# Altium footprint library Power Management DC-DC Conversion.PcbLib: 98 footprints (part 2 of 7)
Each footprint in its own frame and in the unit in brackets; x right, y up, seen from the top. Pads: shape width x height; smd on the part's side, far side on the other; paste and mask are expansions set on the pad; w line width, h text height; cw(c..) or ccw(c..) is an arc to the next point about the centre after c.
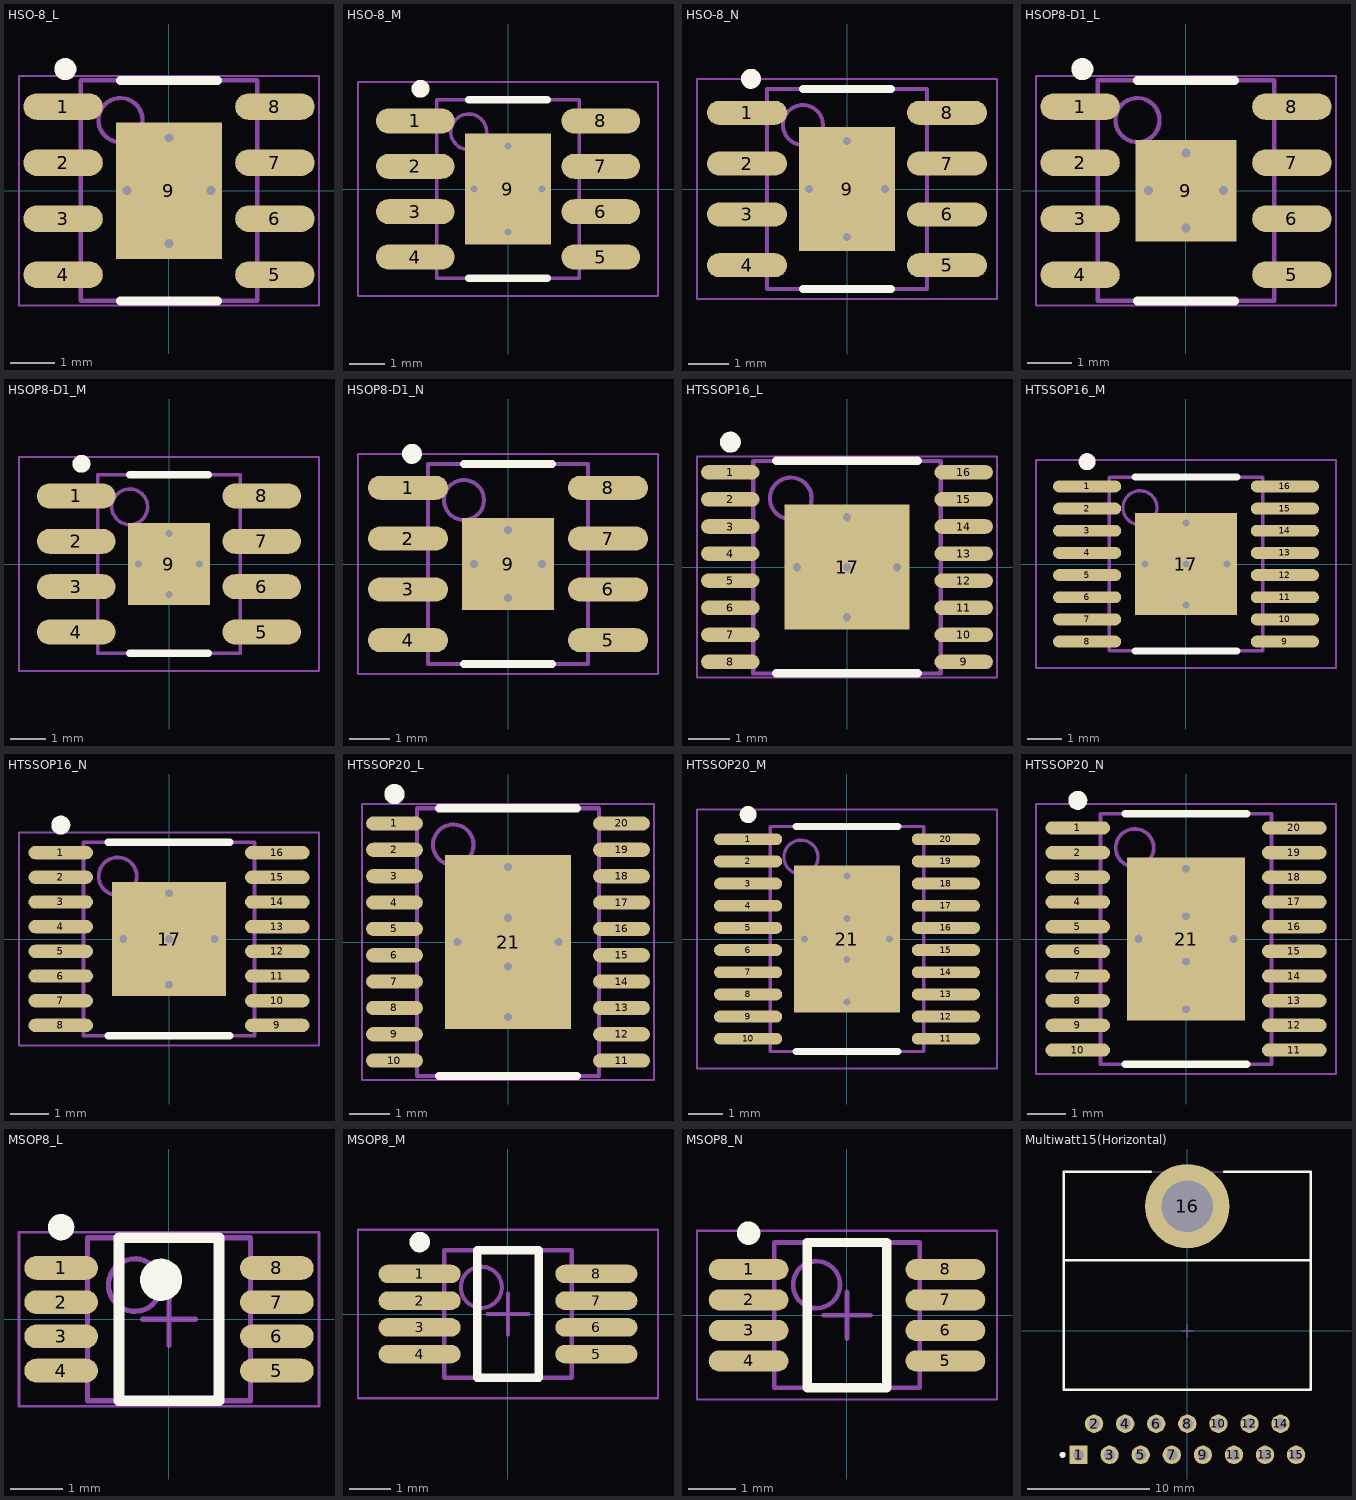
[diagram p1: the footprints below, top view; thin cyan lines are the x and y axes]

## HSO-8_L [mm] "SOIC, 8-Leads, Body 4.9x3.9mm, Pitch 1.27mm, Thermal Pad, IPC High Density"
height 1.75
pads (9):
  oval 1.8x0.6 smd: 1(-2.4,1.905) 2(-2.4,0.635) 3(-2.4,-0.635) 4(-2.4,-1.905) 5(2.4,-1.905) 6(2.4,-0.635) 7(2.4,0.635) 8(2.4,1.905)
  rect 2.4x3.1 smd paste-1.2: 9(0,0)
via -0.95,0 diameter 0.5 hole 0.2
via 0,-1.2 diameter 0.5 hole 0.2
via 0,1.2 diameter 0.5 hole 0.2
via 0.95,0 diameter 0.5 hole 0.2
Top Overlay:
  circle w0.25: c-2.35,2.755 r0.125
  lines w0.2: -1.1,-2.5 1.1,-2.5 ; -1.1,2.5 1.1,2.5
Top Paste:
  rectangle: 0.1,-1.45 1.1,-0.1
  region: -0.1,-0.1 -1.1,-0.1 -1.1,-1.45 -0.1,-1.45
  region: -0.1,1.45 -1.1,1.45 -1.1,0.1 -0.1,0.1
  rectangle: 0.1,0.1 1.1,1.45
Mechanical 13:
  circle w0.1: c-1.1,1.6 r0.5
  lines w0.1: -2,-2.5 -2,2.5 2,2.5 2,-2.5 -2,-2.5
Mechanical 15:
  lines w0.05: -3.4,-2.6 -3.4,2.6 3.4,2.6 3.4,-2.6 -3.4,-2.6
  lines w0.1: -0.5,0 0.5,0 ; 0,-0.5 0,0.5
3D body: height 1.75, standoff 0, extent -2,-2.5 2,2.5

## HSO-8_M [mm] "SOIC, 8-Leads, Body 4.9x3.9mm, Pitch 1.27mm, Thermal Pad, IPC Low Density"
height 1.75
pads (9):
  oval 2.2x0.7 smd: 1(-2.6,1.905) 2(-2.6,0.635) 3(-2.6,-0.635) 4(-2.6,-1.905) 5(2.6,-1.905) 6(2.6,-0.635) 7(2.6,0.635) 8(2.6,1.905)
  rect 2.4x3.1 smd paste-1.2: 9(0,0)
via -0.95,0 diameter 0.5 hole 0.2
via 0,-1.2 diameter 0.5 hole 0.2
via 0,1.2 diameter 0.5 hole 0.2
via 0.95,0 diameter 0.5 hole 0.2
Top Overlay:
  circle w0.25: c-2.45,2.805 r0.125
  lines w0.2: -1.1,-2.5 1.1,-2.5 ; -1.1,2.5 1.1,2.5
Top Paste:
  rectangle: 0.1,-1.45 1.1,-0.1
  region: -0.1,-0.1 -1.1,-0.1 -1.1,-1.45 -0.1,-1.45
  region: -0.1,1.45 -1.1,1.45 -1.1,0.1 -0.1,0.1
  rectangle: 0.1,0.1 1.1,1.45
Mechanical 13:
  circle w0.1: c-1.1,1.6 r0.5
  lines w0.1: -2,-2.5 -2,2.5 2,2.5 2,-2.5 -2,-2.5
Mechanical 15:
  lines w0.05: -4.2,-3 -4.2,3 4.2,3 4.2,-3 -4.2,-3
  lines w0.1: -0.5,0 0.5,0 ; 0,-0.5 0,0.5
3D body: height 1.75, standoff 0, extent -2,-2.5 2,2.5

## HSO-8_N [mm] "SOIC, 8-Leads, Body 4.9x3.9mm, Pitch 1.27mm, Thermal Pad, IPC Medium Density"
height 1.75
pads (9):
  oval 2x0.6 smd: 1(-2.5,1.905) 2(-2.5,0.635) 3(-2.5,-0.635) 4(-2.5,-1.905) 5(2.5,-1.905) 6(2.5,-0.635) 7(2.5,0.635) 8(2.5,1.905)
  rect 2.4x3.1 smd paste-1.2: 9(0,0)
via -0.95,0 diameter 0.5 hole 0.2
via 0,-1.2 diameter 0.5 hole 0.2
via 0,1.2 diameter 0.5 hole 0.2
via 0.95,0 diameter 0.5 hole 0.2
Top Overlay:
  circle w0.25: c-2.4,2.755 r0.125
  lines w0.2: -1.1,-2.5 1.1,-2.5 ; -1.1,2.5 1.1,2.5
Top Paste:
  rectangle: 0.1,-1.45 1.1,-0.1
  region: -0.1,-0.1 -1.1,-0.1 -1.1,-1.45 -0.1,-1.45
  region: -0.1,1.45 -1.1,1.45 -1.1,0.1 -0.1,0.1
  rectangle: 0.1,0.1 1.1,1.45
Mechanical 13:
  circle w0.1: c-1.1,1.6 r0.5
  lines w0.1: -2,-2.5 -2,2.5 2,2.5 2,-2.5 -2,-2.5
Mechanical 15:
  lines w0.05: -3.75,-2.75 -3.75,2.75 3.75,2.75 3.75,-2.75 -3.75,-2.75
  lines w0.1: -0.5,0 0.5,0 ; 0,-0.5 0,0.5
3D body: height 1.75, standoff 0, extent -2,-2.5 2,2.5

## HSOP8-D1_L [mm] "SOIC, 8-Leads, Body 4.9x3.9mm, Pitch 1.27mm, Thermal Pad, IPC High Density"
height 1.7
pads (9):
  oval 1.8x0.6 smd: 1(-2.4,1.905) 2(-2.4,0.635) 3(-2.4,-0.635) 4(-2.4,-1.905) 5(2.4,-1.905) 6(2.4,-0.635) 7(2.4,0.635) 8(2.4,1.905)
  rect 2.3x2.3 smd paste-1.15: 9(0,0)
via 0,-0.85 diameter 0.5 hole 0.2
via 0,0.85 diameter 0.5 hole 0.2
via -0.85,0 diameter 0.5 hole 0.2
via 0.85,0 diameter 0.5 hole 0.2
Top Overlay:
  circle w0.25: c-2.35,2.755 r0.125
  lines w0.2: -1.1,-2.5 1.1,-2.5 ; -1.1,2.5 1.1,2.5
Top Paste:
  rectangle: 0.1,0.1 1.05,1.05
  region: -0.1,0.1 -0.1,1.05 -1.05,1.05 -1.05,0.1
  region: -0.1,-0.1 -1.05,-0.1 -1.05,-1.05 -0.1,-1.05
  region: 0.1,-0.1 0.1,-1.05 1.05,-1.05 1.05,-0.1
Mechanical 13:
  circle w0.1: c-1.1,1.6 r0.5
  lines w0.1: -2,-2.5 -2,2.5 2,2.5 2,-2.5 -2,-2.5
Mechanical 15:
  lines w0.05: -3.4,-2.6 -3.4,2.6 3.4,2.6 3.4,-2.6 -3.4,-2.6
  lines w0.1: -0.5,0 0.5,0 ; 0,-0.5 0,0.5
3D body: height 1.7, standoff 0, extent -2,-2.5 2,2.5

## HSOP8-D1_M [mm] "SOIC, 8-Leads, Body 4.9x3.9mm, Pitch 1.27mm, Thermal Pad, IPC Low Density"
height 1.7
pads (9):
  oval 2.2x0.7 smd: 1(-2.6,1.905) 2(-2.6,0.635) 3(-2.6,-0.635) 4(-2.6,-1.905) 5(2.6,-1.905) 6(2.6,-0.635) 7(2.6,0.635) 8(2.6,1.905)
  rect 2.3x2.3 smd paste-1.15: 9(0,0)
via 0.85,0 diameter 0.5 hole 0.2
via -0.85,0 diameter 0.5 hole 0.2
via 0,0.85 diameter 0.5 hole 0.2
via 0,-0.85 diameter 0.5 hole 0.2
Top Overlay:
  circle w0.25: c-2.45,2.805 r0.125
  lines w0.2: -1.1,-2.5 1.1,-2.5 ; -1.1,2.5 1.1,2.5
Top Paste:
  region: 0.1,-0.1 0.1,-1.05 1.05,-1.05 1.05,-0.1
  region: -0.1,-0.1 -1.05,-0.1 -1.05,-1.05 -0.1,-1.05
  region: -0.1,0.1 -0.1,1.05 -1.05,1.05 -1.05,0.1
  rectangle: 0.1,0.1 1.05,1.05
Mechanical 13:
  circle w0.1: c-1.1,1.6 r0.5
  lines w0.1: -2,-2.5 2,-2.5 2,2.5 -2,2.5 -2,-2.5
Mechanical 15:
  lines w0.05: -4.2,-3 4.2,-3 4.2,3 -4.2,3 -4.2,-3
  lines w0.1: -0.5,0 0.5,0 ; 0,-0.5 0,0.5
3D body: height 1.7, standoff 0, extent -2,-2.5 2,2.5

## HSOP8-D1_N [mm] "SOIC, 8-Leads, Body 4.9x3.9mm, Pitch 1.27mm, Thermal Pad, IPC Medium Density"
height 1.7
pads (9):
  oval 2x0.6 smd: 1(-2.5,1.905) 2(-2.5,0.635) 3(-2.5,-0.635) 4(-2.5,-1.905) 5(2.5,-1.905) 6(2.5,-0.635) 7(2.5,0.635) 8(2.5,1.905)
  rect 2.3x2.3 smd paste-1.15: 9(0,0)
via 0.85,0 diameter 0.5 hole 0.2
via -0.85,0 diameter 0.5 hole 0.2
via 0,0.85 diameter 0.5 hole 0.2
via 0,-0.85 diameter 0.5 hole 0.2
Top Overlay:
  circle w0.25: c-2.4,2.755 r0.125
  lines w0.2: -1.1,-2.5 1.1,-2.5 ; -1.1,2.5 1.1,2.5
Top Paste:
  region: 0.1,-0.1 0.1,-1.05 1.05,-1.05 1.05,-0.1
  region: -0.1,-0.1 -1.05,-0.1 -1.05,-1.05 -0.1,-1.05
  region: -0.1,0.1 -0.1,1.05 -1.05,1.05 -1.05,0.1
  rectangle: 0.1,0.1 1.05,1.05
Mechanical 13:
  circle w0.1: c-1.1,1.6 r0.5
  lines w0.1: -2,-2.5 2,-2.5 2,2.5 -2,2.5 -2,-2.5
Mechanical 15:
  lines w0.05: -3.75,-2.75 -3.75,2.75 3.75,2.75 3.75,-2.75 -3.75,-2.75
  lines w0.1: -0.5,0 0.5,0 ; 0,-0.5 0,0.5
3D body: height 1.7, standoff 0, extent -2,-2.5 2,2.5

## HTSSOP16_L [mm] "TSOP, 16-Leads, Body 5x4.4mm, Pitch 0.65mm, Thermal Pad 3x3mm, IPC High Density"
height 1.2
pads (17):
  oval 1.4x0.35 smd: 1(-2.8,2.275) 2(-2.8,1.625) 3(-2.8,0.975) 4(-2.8,0.325) 5(-2.8,-0.325) 6(-2.8,-0.975) 7(-2.8,-1.625) 8(-2.8,-2.275) 9(2.8,-2.275) 10(2.8,-1.625) 11(2.8,-0.975) 12(2.8,-0.325) 13(2.8,0.325) 14(2.8,0.975) 15(2.8,1.625) 16(2.8,2.275)
  rect 3x3 smd paste-1.5: 17(0,0)
via 1.2,0 diameter 0.5 hole 0.2
via 0,0 diameter 0.5 hole 0.2
via -1.2,0 diameter 0.5 hole 0.2
via 0,1.2 diameter 0.5 hole 0.2
via 0,-1.2 diameter 0.5 hole 0.2
Top Overlay:
  circle w0.25: c-2.8,3 r0.125
  lines w0.2: -1.7,-2.55 1.7,-2.55 ; -1.7,2.55 1.7,2.55
Top Paste:
  rectangle: 0.1,-1.35 1.35,-0.1
  region: -0.1,-0.1 -1.35,-0.1 -1.35,-1.35 -0.1,-1.35
  region: -0.1,1.35 -1.35,1.35 -1.35,0.1 -0.1,0.1
  rectangle: 0.1,0.1 1.35,1.35
Mechanical 13:
  circle w0.1: c-1.35,1.65 r0.5
  lines w0.1: -2.25,-2.55 -2.25,2.55 2.25,2.55 2.25,-2.55 -2.25,-2.55
Mechanical 15:
  lines w0.05: -3.6,-2.65 -3.6,2.65 3.6,2.65 3.6,-2.65 -3.6,-2.65
  lines w0.1: -0.5,0 0.5,0 ; 0,-0.5 0,0.5
3D body: height 1.2, standoff 0, extent -2.25,-2.55 2.25,2.55

## HTSSOP16_M [mm] "TSOP, 16-Leads, Body 5x4.4mm, Pitch 0.65mm, Thermal Pad 3x3mm, IPC Low Density"
height 1.2
pads (17):
  oval 2x0.35 smd: 1(-2.9,2.275) 2(-2.9,1.625) 3(-2.9,0.975) 4(-2.9,0.325) 5(-2.9,-0.325) 6(-2.9,-0.975) 7(-2.9,-1.625) 8(-2.9,-2.275) 9(2.9,-2.275) 10(2.9,-1.625) 11(2.9,-0.975) 12(2.9,-0.325) 13(2.9,0.325) 14(2.9,0.975) 15(2.9,1.625) 16(2.9,2.275)
  rect 3x3 smd paste-1.5: 17(0,0)
via 1.2,0 diameter 0.5 hole 0.2
via 0,0 diameter 0.5 hole 0.2
via -1.2,0 diameter 0.5 hole 0.2
via 0,1.2 diameter 0.5 hole 0.2
via 0,-1.2 diameter 0.5 hole 0.2
Top Overlay:
  circle w0.25: c-2.9,3 r0.125
  lines w0.2: -1.5,-2.55 1.5,-2.55 ; -1.5,2.55 1.5,2.55
Top Paste:
  rectangle: 0.1,-1.35 1.35,-0.1
  region: -0.1,-0.1 -1.35,-0.1 -1.35,-1.35 -0.1,-1.35
  region: -0.1,1.35 -1.35,1.35 -1.35,0.1 -0.1,0.1
  rectangle: 0.1,0.1 1.35,1.35
Mechanical 13:
  circle w0.1: c-1.35,1.65 r0.5
  lines w0.1: -2.25,-2.55 -2.25,2.55 2.25,2.55 2.25,-2.55 -2.25,-2.55
Mechanical 15:
  lines w0.05: -4.4,-3.05 -4.4,3.05 4.4,3.05 4.4,-3.05 -4.4,-3.05
  lines w0.1: -0.5,0 0.5,0 ; 0,-0.5 0,0.5
3D body: height 1.2, standoff 0, extent -2.25,-2.55 2.25,2.55

## HTSSOP16_N [mm] "TSOP, 16-Leads, Body 5x4.4mm, Pitch 0.65mm, Thermal Pad 3x3mm, IPC Medium Density"
height 1.2
pads (17):
  oval 1.7x0.35 smd: 1(-2.85,2.275) 2(-2.85,1.625) 3(-2.85,0.975) 4(-2.85,0.325) 5(-2.85,-0.325) 6(-2.85,-0.975) 7(-2.85,-1.625) 8(-2.85,-2.275) 9(2.85,-2.275) 10(2.85,-1.625) 11(2.85,-0.975) 12(2.85,-0.325) 13(2.85,0.325) 14(2.85,0.975) 15(2.85,1.625) 16(2.85,2.275)
  rect 3x3 smd paste-1.5: 17(0,0)
via 0,-1.2 diameter 0.5 hole 0.2
via 0,1.2 diameter 0.5 hole 0.2
via -1.2,0 diameter 0.5 hole 0.2
via 0,0 diameter 0.5 hole 0.2
via 1.2,0 diameter 0.5 hole 0.2
Top Overlay:
  circle w0.25: c-2.85,3 r0.125
  lines w0.2: -1.6,-2.55 1.6,-2.55 ; -1.6,2.55 1.6,2.55
Top Paste:
  rectangle: 0.1,0.1 1.35,1.35
  region: -0.1,1.35 -1.35,1.35 -1.35,0.1 -0.1,0.1
  region: -0.1,-0.1 -1.35,-0.1 -1.35,-1.35 -0.1,-1.35
  rectangle: 0.1,-1.35 1.35,-0.1
Mechanical 13:
  circle w0.1: c-1.35,1.65 r0.5
  lines w0.1: -2.25,-2.55 -2.25,2.55 2.25,2.55 2.25,-2.55 -2.25,-2.55
Mechanical 15:
  lines w0.05: -3.95,-2.8 -3.95,2.8 3.95,2.8 3.95,-2.8 -3.95,-2.8
  lines w0.1: -0.5,0 0.5,0 ; 0,-0.5 0,0.5
3D body: height 1.2, standoff 0, extent -2.25,-2.55 2.25,2.55

## HTSSOP20_L [mm] "TSOP, 20-Leads, Body 6.5x4.4mm, Pitch 0.65mm, Thermal Pad 4.3x3.1mm, IPC High Density"
height 1.2
pads (21):
  oval 1.4x0.35 smd: 1(-2.8,2.925) 2(-2.8,2.275) 3(-2.8,1.625) 4(-2.8,0.975) 5(-2.8,0.325) 6(-2.8,-0.325) 7(-2.8,-0.975) 8(-2.8,-1.625) 9(-2.8,-2.275) 10(-2.8,-2.925) 11(2.8,-2.925) 12(2.8,-2.275) 13(2.8,-1.625) 14(2.8,-0.975) 15(2.8,-0.325) 16(2.8,0.325) 17(2.8,0.975) 18(2.8,1.625) 19(2.8,2.275) 20(2.8,2.925)
  rect 3.1x4.3 smd paste-1.55: 21(0,0)
via 0,-0.6 diameter 0.5 hole 0.2
via -1.25,0 diameter 0.5 hole 0.2
via 0,0.6 diameter 0.5 hole 0.2
via 0,-1.85 diameter 0.5 hole 0.2
via 1.25,0 diameter 0.5 hole 0.2
via 0,1.85 diameter 0.5 hole 0.2
Top Overlay:
  circle w0.25: c-2.8,3.65 r0.125
  lines w0.2: -1.7,-3.3 1.7,-3.3 ; -1.7,3.3 1.7,3.3
Top Paste:
  region: -0.1,0.1 -0.1,2.05 -1.45,2.05 -1.45,0.1
  region: -1.45,-0.1 -1.45,-2.05 -0.1,-2.05 -0.1,-0.1
  region: 0.1,-0.1 0.1,-2.05 1.45,-2.05 1.45,-0.1
  region: 1.45,0.1 1.45,2.05 0.1,2.05 0.1,0.1
Mechanical 13:
  circle w0.1: c-1.35,2.4 r0.5
  lines w0.1: -2.25,-3.3 -2.25,3.3 2.25,3.3 2.25,-3.3 -2.25,-3.3
Mechanical 15:
  lines w0.05: -3.6,-3.4 -3.6,3.4 3.6,3.4 3.6,-3.4 -3.6,-3.4
  lines w0.1: -0.5,0 0.5,0 ; 0,-0.5 0,0.5
3D body: height 1.2, standoff 0, extent -2.25,-3.3 2.25,3.3

## HTSSOP20_M [mm] "TSOP, 20-Leads, Body 6.5x4.4mm, Pitch 0.65mm, Thermal Pad 4.3x3.1mm, IPC Low Density"
height 1.2
pads (21):
  oval 2x0.35 smd: 1(-2.9,2.925) 2(-2.9,2.275) 3(-2.9,1.625) 4(-2.9,0.975) 5(-2.9,0.325) 6(-2.9,-0.325) 7(-2.9,-0.975) 8(-2.9,-1.625) 9(-2.9,-2.275) 10(-2.9,-2.925) 11(2.9,-2.925) 12(2.9,-2.275) 13(2.9,-1.625) 14(2.9,-0.975) 15(2.9,-0.325) 16(2.9,0.325) 17(2.9,0.975) 18(2.9,1.625) 19(2.9,2.275) 20(2.9,2.925)
  rect 3.1x4.3 smd paste-1.55: 21(0,0)
via 0,-0.6 diameter 0.5 hole 0.2
via -1.25,0 diameter 0.5 hole 0.2
via 0,0.6 diameter 0.5 hole 0.2
via 0,-1.85 diameter 0.5 hole 0.2
via 1.25,0 diameter 0.5 hole 0.2
via 0,1.85 diameter 0.5 hole 0.2
Top Overlay:
  circle w0.25: c-2.9,3.65 r0.125
  lines w0.2: -1.5,-3.3 1.5,-3.3 ; -1.5,3.3 1.5,3.3
Top Paste:
  region: -0.1,0.1 -0.1,2.05 -1.45,2.05 -1.45,0.1
  region: -1.45,-0.1 -1.45,-2.05 -0.1,-2.05 -0.1,-0.1
  region: 0.1,-0.1 0.1,-2.05 1.45,-2.05 1.45,-0.1
  region: 1.45,0.1 1.45,2.05 0.1,2.05 0.1,0.1
Mechanical 13:
  circle w0.1: c-1.35,2.4 r0.5
  lines w0.1: -2.25,-3.3 2.25,-3.3 2.25,3.3 -2.25,3.3 -2.25,-3.3
Mechanical 15:
  lines w0.05: -4.4,-3.8 4.4,-3.8 4.4,3.8 -4.4,3.8 -4.4,-3.8
  lines w0.1: -0.5,0 0.5,0 ; 0,-0.5 0,0.5
3D body: height 1.2, standoff 0, extent -2.25,-3.3 2.25,3.3

## HTSSOP20_N [mm] "TSOP, 20-Leads, Body 6.5x4.4mm, Pitch 0.65mm, Thermal Pad 4.3x3.1mm, IPC Medium Density"
height 1.2
pads (21):
  oval 1.7x0.35 smd: 1(-2.85,2.925) 2(-2.85,2.275) 3(-2.85,1.625) 4(-2.85,0.975) 5(-2.85,0.325) 6(-2.85,-0.325) 7(-2.85,-0.975) 8(-2.85,-1.625) 9(-2.85,-2.275) 10(-2.85,-2.925) 11(2.85,-2.925) 12(2.85,-2.275) 13(2.85,-1.625) 14(2.85,-0.975) 15(2.85,-0.325) 16(2.85,0.325) 17(2.85,0.975) 18(2.85,1.625) 19(2.85,2.275) 20(2.85,2.925)
  rect 3.1x4.3 smd paste-1.55: 21(0,0)
via 0,-0.6 diameter 0.5 hole 0.2
via -1.25,0 diameter 0.5 hole 0.2
via 0,0.6 diameter 0.5 hole 0.2
via 0,-1.85 diameter 0.5 hole 0.2
via 1.25,0 diameter 0.5 hole 0.2
via 0,1.85 diameter 0.5 hole 0.2
Top Overlay:
  circle w0.25: c-2.85,3.65 r0.125
  lines w0.2: -1.6,-3.3 1.6,-3.3 ; -1.6,3.3 1.6,3.3
Top Paste:
  region: -0.1,0.1 -0.1,2.05 -1.45,2.05 -1.45,0.1
  region: -1.45,-0.1 -1.45,-2.05 -0.1,-2.05 -0.1,-0.1
  region: 0.1,-0.1 0.1,-2.05 1.45,-2.05 1.45,-0.1
  region: 1.45,0.1 1.45,2.05 0.1,2.05 0.1,0.1
Mechanical 13:
  circle w0.1: c-1.35,2.4 r0.5
  lines w0.1: -2.25,-3.3 -2.25,3.3 2.25,3.3 2.25,-3.3 -2.25,-3.3
Mechanical 15:
  lines w0.05: -3.95,-3.55 -3.95,3.55 3.95,3.55 3.95,-3.55 -3.95,-3.55
  lines w0.1: -0.5,0 0.5,0 ; 0,-0.5 0,0.5
3D body: height 1.2, standoff 0, extent -2.25,-3.3 2.25,3.3

## MSOP8_L [mm] "TSOP, 8-Leads, Body 3x3mm, Pitch 0.65mm, IPC High Density"
height 1.1
pads (8):
  oval 1.4x0.45 smd: 1(-2.05,0.975) 2(-2.05,0.325) 3(-2.05,-0.325) 4(-2.05,-0.975) 5(2.05,-0.975) 6(2.05,-0.325) 7(2.05,0.325) 8(2.05,0.975)
Top Overlay:
  circle w0.4: c-0.15,0.75 r0.2
  circle w0.25: c-2.05,1.75 r0.125
  lines w0.2: -0.95,-1.55 0.95,-1.55 0.95,1.55 -0.95,1.55 -0.95,-1.55
Mechanical 13:
  circle w0.1: c-0.65,0.65 r0.5
  lines w0.1: -1.55,-1.55 1.55,-1.55 1.55,1.55 -1.55,1.55 -1.55,-1.55
Mechanical 15:
  lines w0.05: -2.85,-1.65 2.85,-1.65 2.85,1.65 -2.85,1.65 -2.85,-1.65
  lines w0.1: -0.5,0 0.5,0 ; 0,-0.5 0,0.5
3D body: height 1.1, standoff 0, extent -1.55,-1.55 1.55,1.55

## MSOP8_M [mm] "TSOP, 8-Leads, Body 3x3mm, Pitch 0.65mm, IPC Low Density"
height 1.1
pads (8):
  oval 2x0.45 smd: 1(-2.15,0.975) 2(-2.15,0.325) 3(-2.15,-0.325) 4(-2.15,-0.975) 5(2.15,-0.975) 6(2.15,-0.325) 7(2.15,0.325) 8(2.15,0.975)
Top Overlay:
  circle w0.25: c-2.15,1.75 r0.125
  lines w0.2: -0.75,-1.55 -0.75,1.55 0.75,1.55 0.75,-1.55 -0.75,-1.55
Mechanical 13:
  circle w0.1: c-0.65,0.65 r0.5
  lines w0.1: -1.55,-1.55 -1.55,1.55 1.55,1.55 1.55,-1.55 -1.55,-1.55
Mechanical 15:
  lines w0.05: -3.65,-2.05 -3.65,2.05 3.65,2.05 3.65,-2.05 -3.65,-2.05
  lines w0.1: -0.5,0 0.5,0 ; 0,-0.5 0,0.5
3D body: height 1.1, standoff 0, extent -1.55,-1.55 1.55,1.55

## MSOP8_N [mm] "TSOP, 8-Leads, Body 3x3mm, Pitch 0.65mm, IPC Medium Density"
height 1.1
pads (8):
  oval 1.7x0.45 smd: 1(-2.1,0.975) 2(-2.1,0.325) 3(-2.1,-0.325) 4(-2.1,-0.975) 5(2.1,-0.975) 6(2.1,-0.325) 7(2.1,0.325) 8(2.1,0.975)
Top Overlay:
  circle w0.25: c-2.1,1.75 r0.125
  lines w0.2: -0.85,-1.55 -0.85,1.55 0.85,1.55 0.85,-1.55 -0.85,-1.55
Mechanical 13:
  circle w0.1: c-0.65,0.65 r0.5
  lines w0.1: -1.55,-1.55 -1.55,1.55 1.55,1.55 1.55,-1.55 -1.55,-1.55
Mechanical 15:
  lines w0.05: -3.2,-1.8 -3.2,1.8 3.2,1.8 3.2,-1.8 -3.2,-1.8
  lines w0.1: -0.5,0 0.5,0 ; 0,-0.5 0,0.5
3D body: height 1.1, standoff 0, extent -1.55,-1.55 1.55,1.55

## Multiwatt15(Horizontal) [mm] "TO, Thru-Hole, Horizontal, Heatsink Mounted; 15 Bent Staggered Lead; Body 19.9x10.6x4.9mm, Pitch 1.27 mm"
height 5
pads (16):
  rect 1.5x1.5 hole 0.9: 1(-8.89,-10.16)
  round 1.5 hole 0.9: 2(-7.62,-7.62) 3(-6.35,-10.16) 4(-5.08,-7.62) 5(-3.81,-10.16) 6(-2.54,-7.62) 7(-1.27,-10.16) 8(0,-7.62) 9(1.27,-10.16) 10(2.54,-7.62) 11(3.81,-10.16) 12(5.08,-7.62) 13(6.35,-10.16) 14(7.62,-7.62) 15(8.89,-10.16)
  round 6.9 hole 4.2: 16(0,10.16)
Top Overlay:
  circle w0.25: c-10.19,-10.16 r0.125
  lines w0.2: -10.1,5.76 10.1,5.76 ; -3,12.96 -10.1,12.96 -10.1,-4.84 10.1,-4.84 10.1,12.96 3,12.96
Mechanical 13:
  circle w0.1: c0,10.16 r1.925
  lines w0.1: -10.1,5.76 10.1,5.76 ; -10.1,-4.84 -10.1,12.96 10.1,12.96 10.1,-4.84 -10.1,-4.84
Mechanical 15:
  lines w0.1: -0.5,0 0.5,0 ; 0,-0.5 0,0.5
3D body: height 1.6, standoff 0, extent -10.099,5.761 10.099,12.959
3D body: height 5, standoff 0, extent -10.099,-4.839 10.099,5.759
3D body: height 1.6, standoff 0, extent -1.924,8.236 1.924,12.084